# Altium footprint library Capacitor_THT.PcbLib: 378 footprints (part 10 of 24)
Each footprint in its own frame and in the unit in brackets; x right, y up, seen from the top. Pads: shape width x height; smd on the part's side, far side on the other; paste and mask are expansions set on the pad; w line width, h text height; cw(c..) or ccw(c..) is an arc to the next point about the centre after c.
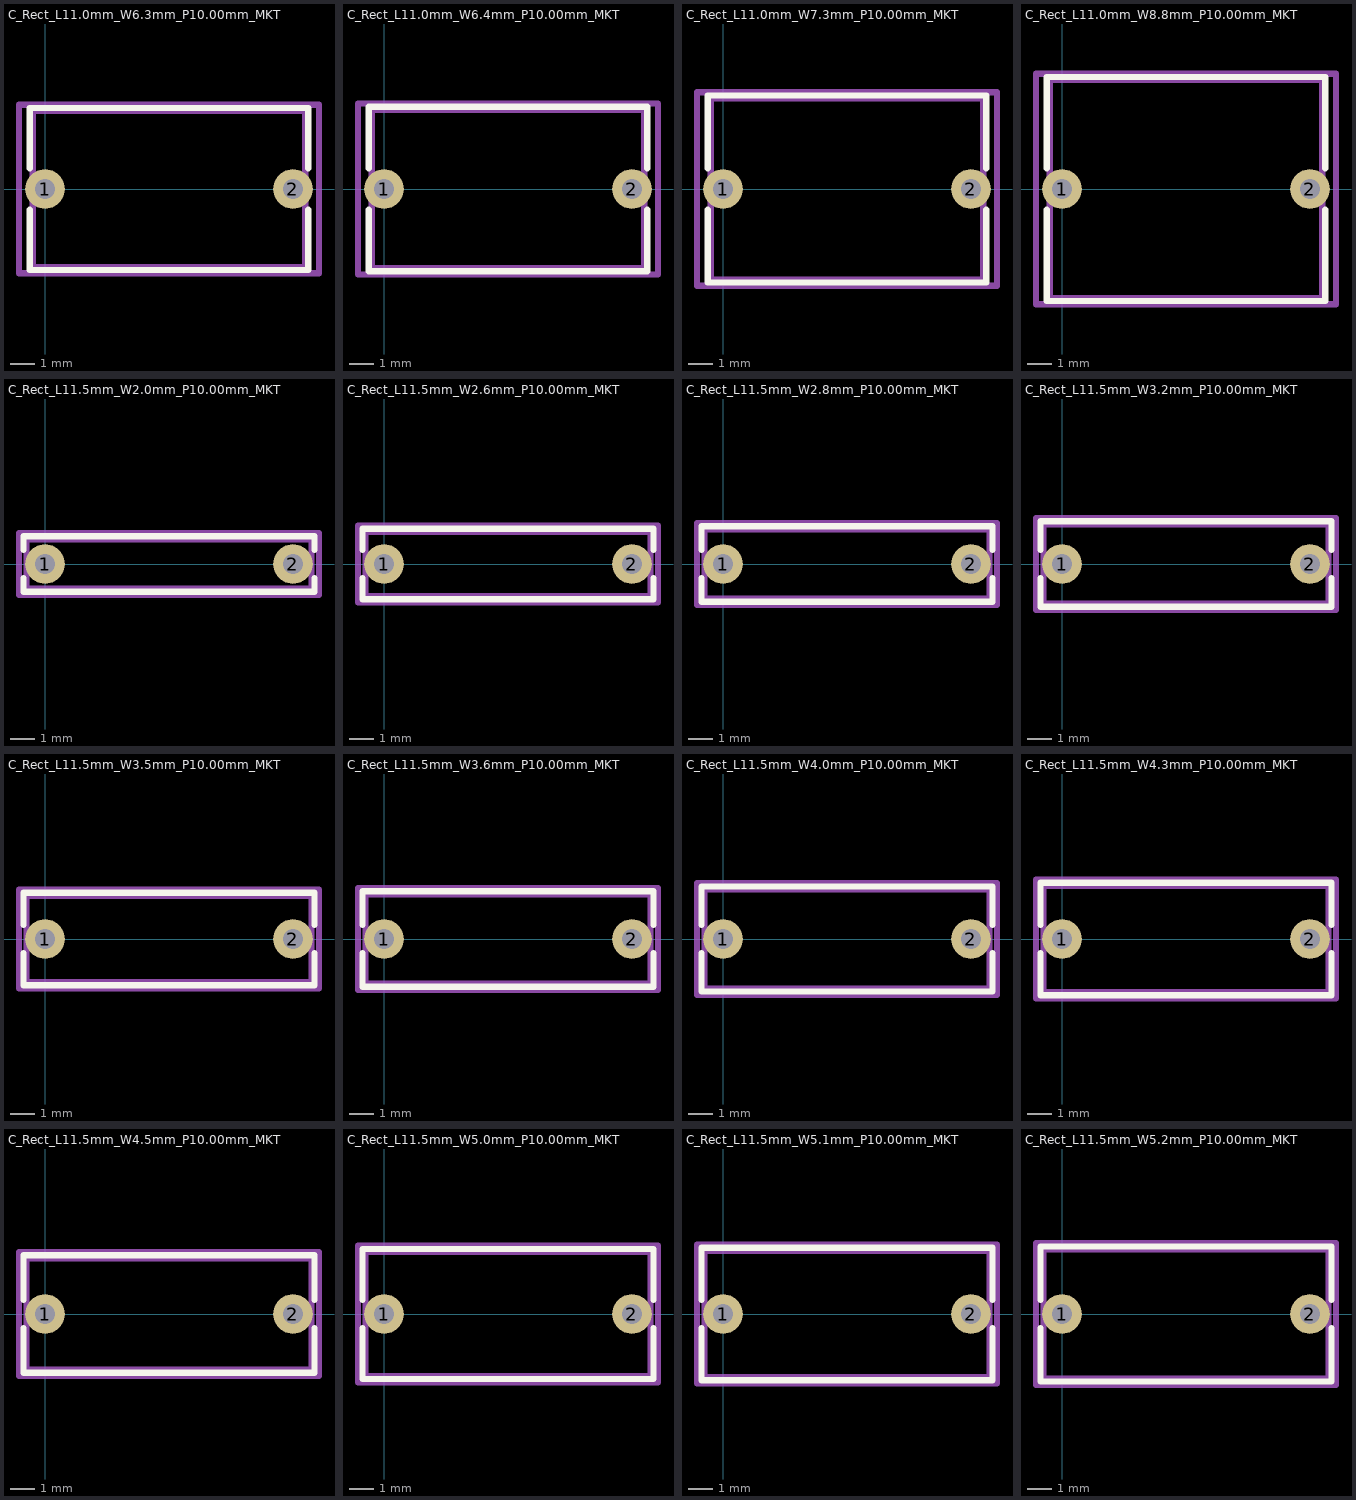
[diagram p9: the footprints below, top view; thin cyan lines are the x and y axes]

## C_Rect_L11.0mm_W6.3mm_P10.00mm_MKT [mm]
pads (2):
  round 1.6 hole 0.8: 1(0,0) 2(10,0)
F.SilkS:
  lines w0.254: -0.62,-0.835 -0.62,-3.27 10.62,-3.27 10.62,-0.835 ; -0.62,0.835 -0.62,3.27 10.62,3.27 10.62,0.835
Top Assembly:
  lines w0.254: -0.5,-3.15 10.5,-3.15 10.5,3.15 -0.5,3.15 -0.5,-3.15
  text "'.Designator'" at 0.953,-0.84 h1
Top Courtyard:
  lines w0.254: -1.05,-3.4 11.05,-3.4 11.05,3.4 -1.05,3.4 -1.05,-3.4
Top Designator:
  text ".Designator" at -2.618,-0.508 h1.52

## C_Rect_L11.0mm_W6.4mm_P10.00mm_MKT [mm]
pads (2):
  round 1.6 hole 0.8: 1(0,0) 2(10,0)
F.SilkS:
  lines w0.254: -0.62,-0.835 -0.62,-3.32 10.62,-3.32 10.62,-0.835 ; -0.62,0.835 -0.62,3.32 10.62,3.32 10.62,0.835
Top Assembly:
  lines w0.254: -0.5,-3.2 10.5,-3.2 10.5,3.2 -0.5,3.2 -0.5,-3.2
  text "'.Designator'" at 0.953,-0.84 h1
Top Courtyard:
  lines w0.254: -1.05,-3.45 11.05,-3.45 11.05,3.45 -1.05,3.45 -1.05,-3.45
Top Designator:
  text ".Designator" at -2.618,-0.508 h1.52

## C_Rect_L11.0mm_W7.3mm_P10.00mm_MKT [mm]
pads (2):
  round 1.6 hole 0.8: 1(0,0) 2(10,0)
F.SilkS:
  lines w0.254: -0.62,-0.835 -0.62,-3.77 10.62,-3.77 10.62,-0.835 ; -0.62,0.835 -0.62,3.77 10.62,3.77 10.62,0.835
Top Assembly:
  lines w0.254: -0.5,-3.65 10.5,-3.65 10.5,3.65 -0.5,3.65 -0.5,-3.65
  text "'.Designator'" at 0.953,-0.84 h1
Top Courtyard:
  lines w0.254: -1.05,-3.9 11.05,-3.9 11.05,3.9 -1.05,3.9 -1.05,-3.9
Top Designator:
  text ".Designator" at -2.618,-0.508 h1.52

## C_Rect_L11.0mm_W8.8mm_P10.00mm_MKT [mm]
pads (2):
  round 1.6 hole 0.8: 1(0,0) 2(10,0)
F.SilkS:
  lines w0.254: -0.62,-0.835 -0.62,-4.52 10.62,-4.52 10.62,-0.835 ; -0.62,0.835 -0.62,4.52 10.62,4.52 10.62,0.835
Top Assembly:
  lines w0.254: -0.5,-4.4 10.5,-4.4 10.5,4.4 -0.5,4.4 -0.5,-4.4
  text "'.Designator'" at 0.953,-0.84 h1
Top Courtyard:
  lines w0.254: -1.05,-4.65 11.05,-4.65 11.05,4.65 -1.05,4.65 -1.05,-4.65
Top Designator:
  text ".Designator" at -2.618,-0.508 h1.52

## C_Rect_L11.5mm_W2.0mm_P10.00mm_MKT [mm]
pads (2):
  round 1.6 hole 0.8: 1(0,0) 2(10,0)
F.SilkS:
  lines w0.254: -0.87,-0.57 -0.87,-1.12 10.87,-1.12 10.87,-0.57 ; -0.87,0.57 -0.87,1.12 10.87,1.12 10.87,0.57
Top Assembly:
  lines w0.254: -0.75,-1 10.75,-1 10.75,1 -0.75,1 -0.75,-1
  text "'.Designator'" at 0.953,-0.84 h1
Top Courtyard:
  lines w0.254: -1.05,-1.25 11.05,-1.25 11.05,1.25 -1.05,1.25 -1.05,-1.25
Top Designator:
  text ".Designator" at -2.618,-0.508 h1.52

## C_Rect_L11.5mm_W2.6mm_P10.00mm_MKT [mm]
pads (2):
  round 1.6 hole 0.8: 1(0,0) 2(10,0)
F.SilkS:
  lines w0.254: -0.87,-0.57 -0.87,-1.42 10.87,-1.42 10.87,-0.57 ; -0.87,0.57 -0.87,1.42 10.87,1.42 10.87,0.57
Top Assembly:
  lines w0.254: -0.75,-1.3 10.75,-1.3 10.75,1.3 -0.75,1.3 -0.75,-1.3
  text "'.Designator'" at 0.953,-0.84 h1
Top Courtyard:
  lines w0.254: -1.05,-1.55 11.05,-1.55 11.05,1.55 -1.05,1.55 -1.05,-1.55
Top Designator:
  text ".Designator" at -2.618,-0.508 h1.52

## C_Rect_L11.5mm_W2.8mm_P10.00mm_MKT [mm]
pads (2):
  round 1.6 hole 0.8: 1(0,0) 2(10,0)
F.SilkS:
  lines w0.254: -0.87,-0.57 -0.87,-1.52 10.87,-1.52 10.87,-0.57 ; -0.87,0.57 -0.87,1.52 10.87,1.52 10.87,0.57
Top Assembly:
  lines w0.254: -0.75,-1.4 10.75,-1.4 10.75,1.4 -0.75,1.4 -0.75,-1.4
  text "'.Designator'" at 0.953,-0.84 h1
Top Courtyard:
  lines w0.254: -1.05,-1.65 11.05,-1.65 11.05,1.65 -1.05,1.65 -1.05,-1.65
Top Designator:
  text ".Designator" at -2.618,-0.508 h1.52

## C_Rect_L11.5mm_W3.2mm_P10.00mm_MKT [mm]
pads (2):
  round 1.6 hole 0.8: 1(0,0) 2(10,0)
F.SilkS:
  lines w0.254: -0.87,-0.57 -0.87,-1.72 10.87,-1.72 10.87,-0.57 ; -0.87,0.57 -0.87,1.72 10.87,1.72 10.87,0.57
Top Assembly:
  lines w0.254: -0.75,-1.6 10.75,-1.6 10.75,1.6 -0.75,1.6 -0.75,-1.6
  text "'.Designator'" at 0.953,-0.84 h1
Top Courtyard:
  lines w0.254: -1.05,-1.85 11.05,-1.85 11.05,1.85 -1.05,1.85 -1.05,-1.85
Top Designator:
  text ".Designator" at -2.618,-0.508 h1.52

## C_Rect_L11.5mm_W3.5mm_P10.00mm_MKT [mm]
pads (2):
  round 1.6 hole 0.8: 1(0,0) 2(10,0)
F.SilkS:
  lines w0.254: -0.87,-0.57 -0.87,-1.87 10.87,-1.87 10.87,-0.57 ; -0.87,0.57 -0.87,1.87 10.87,1.87 10.87,0.57
Top Assembly:
  lines w0.254: -0.75,-1.75 10.75,-1.75 10.75,1.75 -0.75,1.75 -0.75,-1.75
  text "'.Designator'" at 0.953,-0.84 h1
Top Courtyard:
  lines w0.254: -1.05,-2 11.05,-2 11.05,2 -1.05,2 -1.05,-2
Top Designator:
  text ".Designator" at -2.618,-0.508 h1.52

## C_Rect_L11.5mm_W3.6mm_P10.00mm_MKT [mm]
pads (2):
  round 1.6 hole 0.8: 1(0,0) 2(10,0)
F.SilkS:
  lines w0.254: -0.87,-0.57 -0.87,-1.92 10.87,-1.92 10.87,-0.57 ; -0.87,0.57 -0.87,1.92 10.87,1.92 10.87,0.57
Top Assembly:
  lines w0.254: -0.75,-1.8 10.75,-1.8 10.75,1.8 -0.75,1.8 -0.75,-1.8
  text "'.Designator'" at 0.953,-0.84 h1
Top Courtyard:
  lines w0.254: -1.05,-2.05 11.05,-2.05 11.05,2.05 -1.05,2.05 -1.05,-2.05
Top Designator:
  text ".Designator" at -2.618,-0.508 h1.52

## C_Rect_L11.5mm_W4.0mm_P10.00mm_MKT [mm]
pads (2):
  round 1.6 hole 0.8: 1(0,0) 2(10,0)
F.SilkS:
  lines w0.254: -0.87,-0.57 -0.87,-2.12 10.87,-2.12 10.87,-0.57 ; -0.87,0.57 -0.87,2.12 10.87,2.12 10.87,0.57
Top Assembly:
  lines w0.254: -0.75,-2 10.75,-2 10.75,2 -0.75,2 -0.75,-2
  text "'.Designator'" at 0.953,-0.84 h1
Top Courtyard:
  lines w0.254: -1.05,-2.25 11.05,-2.25 11.05,2.25 -1.05,2.25 -1.05,-2.25
Top Designator:
  text ".Designator" at -2.618,-0.508 h1.52

## C_Rect_L11.5mm_W4.3mm_P10.00mm_MKT [mm]
pads (2):
  round 1.6 hole 0.8: 1(0,0) 2(10,0)
F.SilkS:
  lines w0.254: -0.87,-0.57 -0.87,-2.27 10.87,-2.27 10.87,-0.57 ; -0.87,0.57 -0.87,2.27 10.87,2.27 10.87,0.57
Top Assembly:
  lines w0.254: -0.75,-2.15 10.75,-2.15 10.75,2.15 -0.75,2.15 -0.75,-2.15
  text "'.Designator'" at 0.953,-0.84 h1
Top Courtyard:
  lines w0.254: -1.05,-2.4 11.05,-2.4 11.05,2.4 -1.05,2.4 -1.05,-2.4
Top Designator:
  text ".Designator" at -2.618,-0.508 h1.52

## C_Rect_L11.5mm_W4.5mm_P10.00mm_MKT [mm]
pads (2):
  round 1.6 hole 0.8: 1(0,0) 2(10,0)
F.SilkS:
  lines w0.254: -0.87,-0.57 -0.87,-2.37 10.87,-2.37 10.87,-0.57 ; -0.87,0.57 -0.87,2.37 10.87,2.37 10.87,0.57
Top Assembly:
  lines w0.254: -0.75,-2.25 10.75,-2.25 10.75,2.25 -0.75,2.25 -0.75,-2.25
  text "'.Designator'" at 0.953,-0.84 h1
Top Courtyard:
  lines w0.254: -1.05,-2.5 11.05,-2.5 11.05,2.5 -1.05,2.5 -1.05,-2.5
Top Designator:
  text ".Designator" at -2.618,-0.508 h1.52

## C_Rect_L11.5mm_W5.0mm_P10.00mm_MKT [mm]
pads (2):
  round 1.6 hole 0.8: 1(0,0) 2(10,0)
F.SilkS:
  lines w0.254: -0.87,-0.57 -0.87,-2.62 10.87,-2.62 10.87,-0.57 ; -0.87,0.57 -0.87,2.62 10.87,2.62 10.87,0.57
Top Assembly:
  lines w0.254: -0.75,-2.5 10.75,-2.5 10.75,2.5 -0.75,2.5 -0.75,-2.5
  text "'.Designator'" at 0.953,-0.84 h1
Top Courtyard:
  lines w0.254: -1.05,-2.75 11.05,-2.75 11.05,2.75 -1.05,2.75 -1.05,-2.75
Top Designator:
  text ".Designator" at -2.618,-0.508 h1.52

## C_Rect_L11.5mm_W5.1mm_P10.00mm_MKT [mm]
pads (2):
  round 1.6 hole 0.8: 1(0,0) 2(10,0)
F.SilkS:
  lines w0.254: -0.87,-0.57 -0.87,-2.67 10.87,-2.67 10.87,-0.57 ; -0.87,0.57 -0.87,2.67 10.87,2.67 10.87,0.57
Top Assembly:
  lines w0.254: -0.75,-2.55 10.75,-2.55 10.75,2.55 -0.75,2.55 -0.75,-2.55
  text "'.Designator'" at 0.953,-0.84 h1
Top Courtyard:
  lines w0.254: -1.05,-2.8 11.05,-2.8 11.05,2.8 -1.05,2.8 -1.05,-2.8
Top Designator:
  text ".Designator" at -2.618,-0.508 h1.52

## C_Rect_L11.5mm_W5.2mm_P10.00mm_MKT [mm]
pads (2):
  round 1.6 hole 0.8: 1(0,0) 2(10,0)
F.SilkS:
  lines w0.254: -0.87,-0.57 -0.87,-2.72 10.87,-2.72 10.87,-0.57 ; -0.87,0.57 -0.87,2.72 10.87,2.72 10.87,0.57
Top Assembly:
  lines w0.254: -0.75,-2.6 10.75,-2.6 10.75,2.6 -0.75,2.6 -0.75,-2.6
  text "'.Designator'" at 0.953,-0.84 h1
Top Courtyard:
  lines w0.254: -1.05,-2.85 11.05,-2.85 11.05,2.85 -1.05,2.85 -1.05,-2.85
Top Designator:
  text ".Designator" at -2.618,-0.508 h1.52